# Altium schematic symbol library Schlib1.SchLib: 1 symbol
Pins are listed as number, name and electrical type; pins without a type are passive.

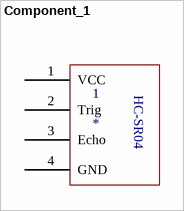
[diagram p0: symbol Component_1]

## Component_1
designator 1
pins: 1 VCC, 2 Trig, 3 Echo, 4 GND
text: HC-SR04